# EAGLE library part MICS-VZ-89TE (library GasSensor)
The MiCS-VZ-89TE is an integrated sensor board for Indoor Air Quality monitoring. The MiCS-VZ-89TE combines state-of-the-art MOS sensor technology with intelligent detection algorithms to monitor tVOCs and CO2 equivalent variations in confined spaces, e.g. meeting rooms or vehicle cabins. The dual signal output can be used to control ventilation on-demand, saving energy and reducing cost-ofownership.
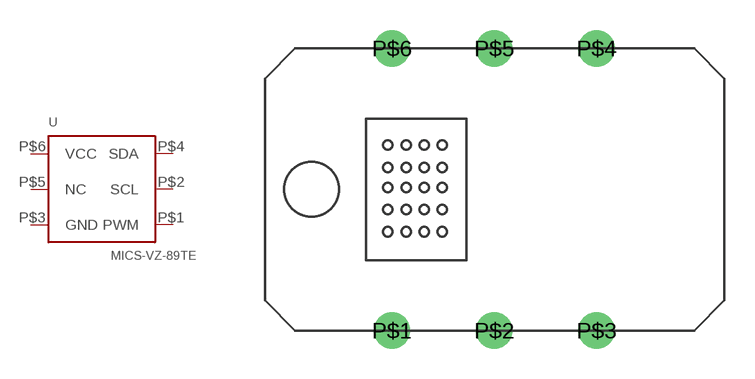
[diagram p0: symbol with the pads of MICS-VZ-89TE; footprint MICS-VZ-89TE]

Designator prefix U

## MICS-VZ-89TE  [MICS-VZ-89TE]
P$1  PWM  out
P$2  SCL
P$3  GND  pwr
P$4  SDA
P$5  NC
P$6  VCC  pwr

## Footprint MICS-VZ-89TE (pad centres in mm)
drill 1.2: P$1 0,0; P$2 5.08,0; P$3 10.16,0; P$4 10.16,14; P$5 5.08,14; P$6 0,14